# Altium schematic symbol library 2019-03-18_23-09-35.SchLib: 2 symbols
Pins are listed as number, name and electrical type; pins without a type are passive.

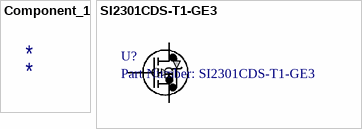
[diagram p0: symbols Component_1 to SI2301CDS-T1-GE3]

## Component_1
designator *

## SI2301CDS-T1-GE3
designator U?, comment Part Number: SI2301CDS-T1-GE3
No Description Available; Vendor: Vishay; Built_By: EMA_UL_Team; Manufacturer_Part_Number: SI2301CDS-T1-GE3; Copyright: Copyright (C) 2018 Accelerated Designs. All rights reserved; RefDes: RefDes; Type: DEV; Value: Value
footprint TO-236
pins: 1 G, 2 S, 3 D